# Altium footprint library adp3339akc-3.PcbLib: 3 footprints
Each footprint in its own frame and in the unit in brackets; x right, y up, seen from the top. Pads: shape width x height; smd on the part's side, far side on the other; paste and mask are expansions set on the pad; w line width, h text height; cw(c..) or ccw(c..) is an arc to the next point about the centre after c.
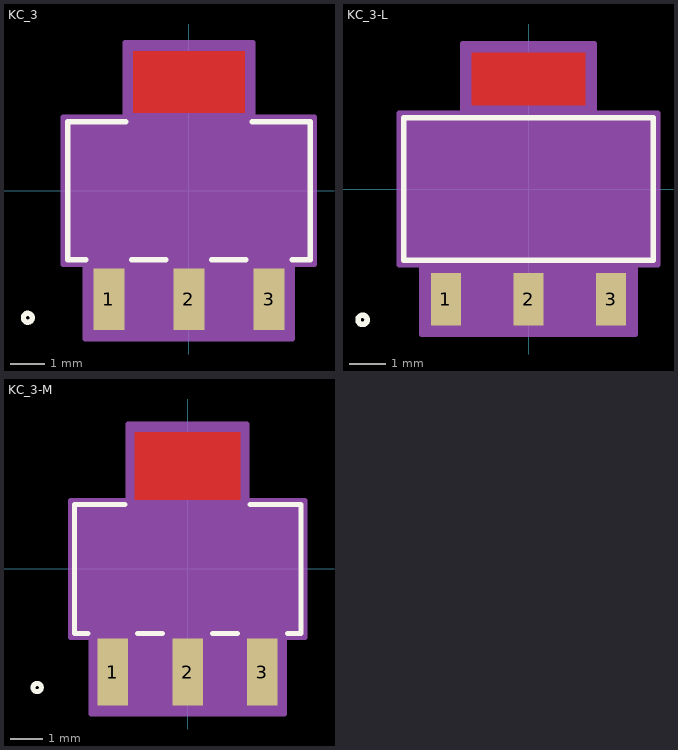
[diagram p0: the footprints below, top view; thin cyan lines are the x and y axes]

## KC_3 [mil]
pads (3):
  rect 35x69.5 smd paste+0 mask+0: 1(-90.55,-122.75) 2(0,-122.75) 3(90.55,-122.75)
Top Layer:
  region: 63,88 63,157.5 -63,157.5 -63,88
Top Overlay:
  circle w6: c-182,-143.5 r5
  lines w6: -116.51,-78 -137,-78 -137,78 -71.46,78 ; -64.59,-78 -25.96,-78 ; 25.96,-78 64.59,-78 ; 71.46,78 137,78 137,-78 116.51,-78
Top Paste:
  region: 63,88 63,157.5 -63,157.5 -63,88
Top Solder:
  region: 64,74 64,171.5 -64,171.5 -64,74
Mechanical 13:
  circle w0: c-122,-63 r5
  lines w1: -132,-73 132,-73 132,73 -132,73 -132,-73 ; -107.05,-143.5 -107.05,-73 -74.05,-73 -74.05,-143.5 -107.05,-143.5 ; -62,73 62,73 62,143.5 -62,143.5 -62,73 ; -16.5,-143.5 -16.5,-73 16.5,-73 16.5,-143.5 -16.5,-143.5 ; 74.05,-143.5 74.05,-73 107.05,-73 107.05,-143.5 74.05,-143.5
Mechanical 15:
  region: -142,-83 -142,83 -72,83 -72,167.5 72,167.5 72,83 142,83 142,-83 117.05,-83 117.05,-167.5 -117.05,-167.5 -117.05,-83
  lines w6: -142,-83 -142,83 -72,83 -72,167.5 72,167.5 72,83 142,83 142,-83 117.05,-83 117.05,-167.5 -117.05,-167.5 -117.05,-83 -142,-83
3D body: height 10, standoff 0, extent 0,0 10,10

## KC_3-L [mil]
pads (3):
  rect 33x57.5 smd paste+0 mask+0: 1(-90.55,-120.75) 2(0,-120.75) 3(90.55,-120.75)
Top Layer:
  region: 62,92 62,149.5 -62,149.5 -62,92
Top Overlay:
  circle w6: c-182,-143.5 r5
  lines w6: -137,-78 137,-78 137,78 -137,78 -137,-78
Top Paste:
  region: 62,92 62,149.5 -62,149.5 -62,92
Top Solder:
  region: 62,82 62,155.5 -62,155.5 -62,82
Mechanical 13:
  circle w0: c-122,-63 r5
  lines w1: -132,-73 132,-73 132,73 -132,73 -132,-73 ; -107.05,-143.5 -107.05,-73 -74.05,-73 -74.05,-143.5 -107.05,-143.5 ; -62,73 62,73 62,143.5 -62,143.5 -62,73 ; -16.5,-143.5 -16.5,-73 16.5,-73 16.5,-143.5 -16.5,-143.5 ; 74.05,-143.5 74.05,-73 107.05,-73 107.05,-143.5 74.05,-143.5
Mechanical 15:
  region: -142,-83 -142,83 -72,83 -72,159.5 72,159.5 72,83 142,83 142,-83 117.05,-83 117.05,-159.5 -117.05,-159.5 -117.05,-83
  lines w6: -142,-83 -142,83 -72,83 -72,159.5 72,159.5 72,83 142,83 142,-83 117.05,-83 117.05,-159.5 -117.05,-159.5 -117.05,-83 -142,-83
3D body: height 10, standoff 0, extent 0,0 10,10

## KC_3-M [mil]
pads (3):
  rect 37x81.5 smd paste+0 mask+0: 1(-90.55,-124.75) 2(0,-124.75) 3(90.55,-124.75)
Top Layer:
  region: 64,84 64,165.5 -64,165.5 -64,84
Top Overlay:
  circle w6: c-182,-143.5 r5
  lines w6: -120.7,-78 -137,-78 -137,78 -75.65,78 ; -60.41,-78 -30.15,-78 ; 30.15,-78 60.41,-78 ; 75.65,78 137,78 137,-78 120.7,-78
Top Paste:
  region: 64,84 64,165.5 -64,165.5 -64,84
Top Solder:
  region: 66,66 66,187.5 -66,187.5 -66,66
Mechanical 13:
  circle w0: c-122,-63 r5
  lines w1: -132,-73 132,-73 132,73 -132,73 -132,-73 ; -107.05,-143.5 -107.05,-73 -74.05,-73 -74.05,-143.5 -107.05,-143.5 ; -62,73 62,73 62,143.5 -62,143.5 -62,73 ; -16.5,-143.5 -16.5,-73 16.5,-73 16.5,-143.5 -16.5,-143.5 ; 74.05,-143.5 74.05,-73 107.05,-73 107.05,-143.5 74.05,-143.5
Mechanical 15:
  region: -142,-83 -142,83 -72,83 -72,175.5 72,175.5 72,83 142,83 142,-83 117.05,-83 117.05,-175.5 -117.05,-175.5 -117.05,-83
  lines w6: -142,-83 -142,83 -72,83 -72,175.5 72,175.5 72,83 142,83 142,-83 117.05,-83 117.05,-175.5 -117.05,-175.5 -117.05,-83 -142,-83
3D body: height 10, standoff 0, extent 0,0 10,10